# EAGLE library part SNP59-96 (library shock_own)
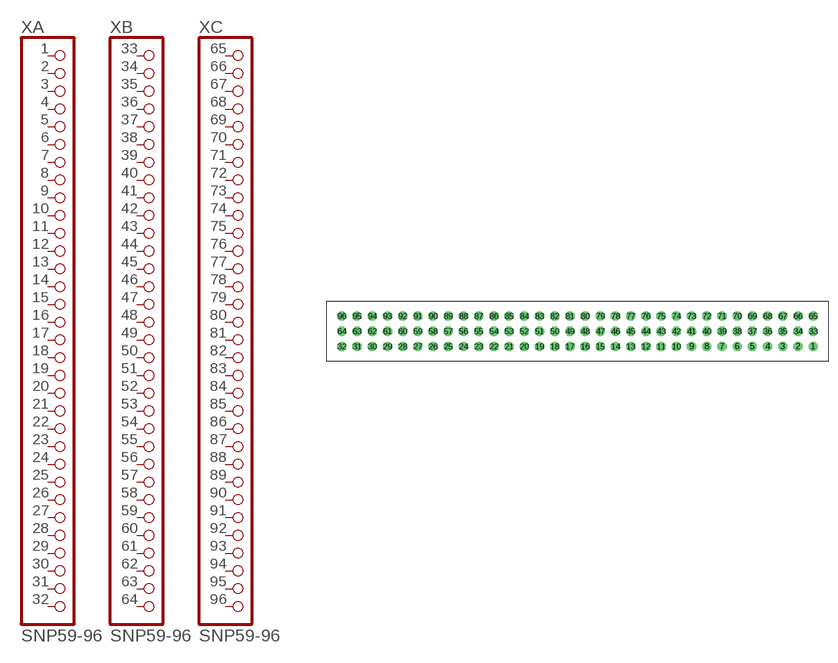
[diagram p4: symbol with the pads of SNP59-96; footprint SNP59-96]

Designator prefix X; gates A=SNP59-96_SINGLEROW B=SNP59-96_SINGLEROW C=SNP59-96_SINGLEROW

## SNP59-96  [SNP59-96]
1  A:1  pas
2  A:2  pas
3  A:3  pas
4  A:4  pas
5  A:5  pas
6  A:6  pas
7  A:7  pas
8  A:8  pas
9  A:9  pas
10  A:10  pas
11  A:11  pas
12  A:12  pas
13  A:13  pas
14  A:14  pas
15  A:15  pas
16  A:16  pas
17  A:17  pas
18  A:18  pas
19  A:19  pas
20  A:20  pas
21  A:21  pas
22  A:22  pas
23  A:23  pas
24  A:24  pas
25  A:25  pas
26  A:26  pas
27  A:27  pas
28  A:28  pas
29  A:29  pas
30  A:30  pas
31  A:31  pas
32  A:32  pas
33  B:1  pas
34  B:2  pas
35  B:3  pas
36  B:4  pas
37  B:5  pas
38  B:6  pas
39  B:7  pas
40  B:8  pas
41  B:9  pas
42  B:10  pas
43  B:11  pas
44  B:12  pas
45  B:13  pas
46  B:14  pas
47  B:15  pas
48  B:16  pas
49  B:17  pas
50  B:18  pas
51  B:19  pas
52  B:20  pas
53  B:21  pas
54  B:22  pas
55  B:23  pas
56  B:24  pas
57  B:25  pas
58  B:26  pas
59  B:27  pas
60  B:28  pas
61  B:29  pas
62  B:30  pas
63  B:31  pas
64  B:32  pas
65  C:1  pas
66  C:2  pas
67  C:3  pas
68  C:4  pas
69  C:5  pas
70  C:6  pas
71  C:7  pas
72  C:8  pas
73  C:9  pas
74  C:10  pas
75  C:11  pas
76  C:12  pas
77  C:13  pas
78  C:14  pas
79  C:15  pas
80  C:16  pas
81  C:17  pas
82  C:18  pas
83  C:19  pas
84  C:20  pas
85  C:21  pas
86  C:22  pas
87  C:23  pas
88  C:24  pas
89  C:25  pas
90  C:26  pas
91  C:27  pas
92  C:28  pas
93  C:29  pas
94  C:30  pas
95  C:31  pas
96  C:32  pas

## Footprint SNP59-96 (pad centres in mm)
drill 1.016 octagon: 1 0,0; 2 -2.5,0; 3 -5,0; 4 -7.5,0; 5 -10,0; 6 -12.5,0; 7 -15,0; 8 -17.5,0; 9 -20,0; 10 -22.5,0; 11 -25,0; 12 -27.5,0; 13 -30,0; 14 -32.5,0; 15 -35,0; 16 -37.5,0; 17 -40,0; 18 -42.5,0; 19 -45,0; 20 -47.5,0; 21 -50,0; 22 -52.5,0; 23 -55,0; 24 -57.5,0; 25 -60,0; 26 -62.5,0; 27 -65,0; 28 -67.5,0; 29 -70,0; 30 -72.5,0; 31 -75,0; 32 -77.5,0; 33 0,2.5; 34 -2.5,2.5; 35 -5,2.5; 36 -7.5,2.5; 37 -10,2.5; 38 -12.5,2.5; 39 -15,2.5; 40 -17.5,2.5; 41 -20,2.5; 42 -22.5,2.5; 43 -25,2.5; 44 -27.5,2.5; 45 -30,2.5; 46 -32.5,2.5; 47 -35,2.5; 48 -37.5,2.5; 49 -40,2.5; 50 -42.5,2.5; 51 -45,2.5; 52 -47.5,2.5; 53 -50,2.5; 54 -52.5,2.5; 55 -55,2.5; 56 -57.5,2.5; 57 -60,2.5; 58 -62.5,2.5; 59 -65,2.5; 60 -67.5,2.5; 61 -70,2.5; 62 -72.5,2.5; 63 -75,2.5; 64 -77.5,2.5; 65 0,5; 66 -2.5,5; 67 -5,5; 68 -7.5,5; 69 -10,5; 70 -12.5,5; 71 -15,5; 72 -17.5,5; 73 -20,5; 74 -22.5,5; 75 -25,5; 76 -27.5,5; 77 -30,5; 78 -32.5,5; 79 -35,5; 80 -37.5,5; 81 -40,5; 82 -42.5,5; 83 -45,5; 84 -47.5,5; 85 -50,5; 86 -52.5,5; 87 -55,5; 88 -57.5,5; 89 -60,5; 90 -62.5,5; 91 -65,5; 92 -67.5,5; 93 -70,5; 94 -72.5,5; 95 -75,5; 96 -77.5,5